# Altium schematic symbol library Microver.SchLib: 988 symbols (part 11 of 17)
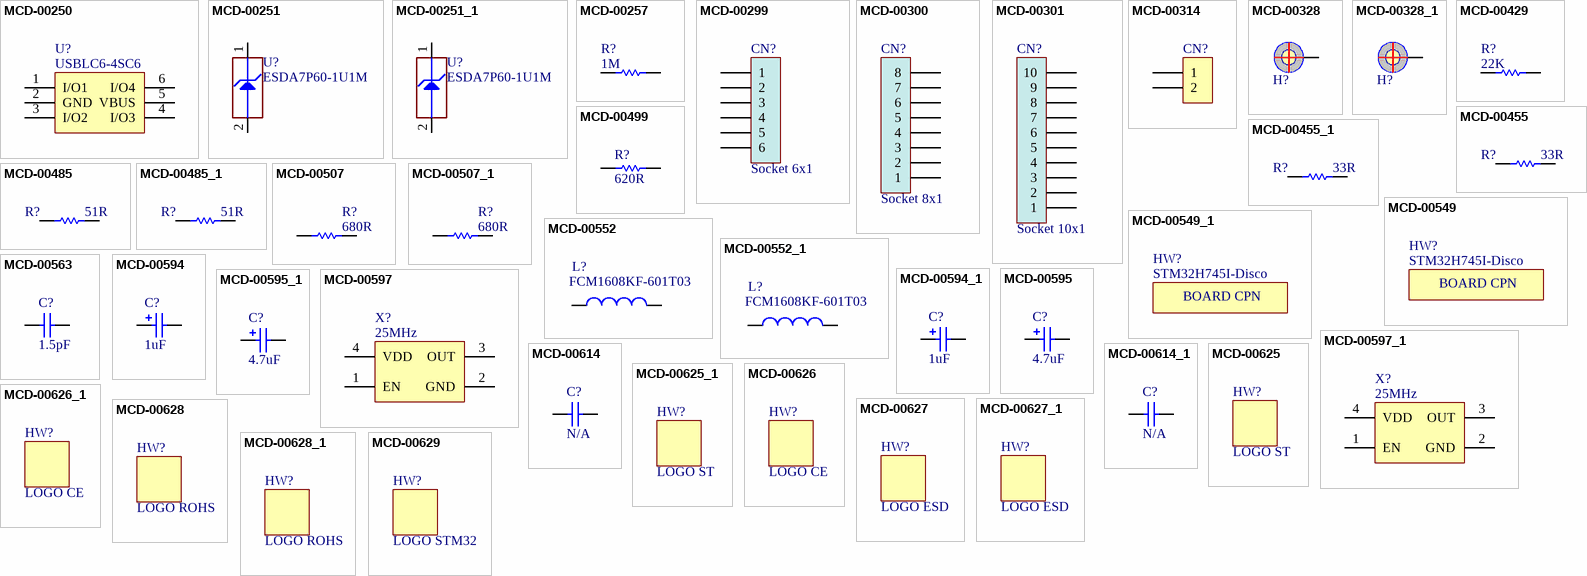
[diagram p39: symbols MCD-00250 to MCD-00629]

## MCD-00597_1
designator X?, comment value 25MHz  (hidden comment: Oscillator_4pins)
Oscillator 25.00Mhz, -+50PPM, 3.3V, Temp -55 to +125°C; Internal_Part_Number: MCD-00597; Part_Type: Crystal_Osc; Manufacturer_Part_Number: NZ2520SB 25MHz END4869B; Manufacturer: NDK; Alternate_Manufacturer_Part_Number: KC2520B25.0000C10E00; Alternate_Manufacturer: AVX CORP/KYOCERA CORP; Provided_By: STM; Initial_Board_Reference: MB1331; Status: Footprint available; ComponentLink1Description: NDK_OSCILLATOR_NZ2520SB.pdf; ComponentLink1URL: http://tunmcdsvn.tun.st.com/Component_Datasheet_Library/Trunk/Crystal_Osc/NDK_OSCILLATOR_NZ2520SB; Order_Code_Digikey: 478-4780-1-ND; ECCN_US: n/a; ECCN_EU: n/a
footprint OSC_NDK_NZ2520SB_4P
pins: 1 EN, 2 GND, 3 OUT, 4 VDD

## MCD-00614
designator C?, comment N/A
Capacitor, MLCC, 22uF, 16V, 1210, X7R, 20%, T=2,5mm, ESR 2mohm@410KHz; Internal_Part_Number: MCD-00614; Manufacturer_Part_Number: GCM32ER71C226ME19; Manufacturer: MURATA; Provided_By: Subcon; Initial_Board_Reference: MB1331; Value: 22uF; Status: Footprint available; Part_Type: Capacitor; Package: C1210; ComponentLink1Description: Murata_22uF_1210_GCM32ER71C226ME19.pdf; ComponentLink1URL: http://tunmcdsvn.tun.st.com/Component_Datasheet_Library/Trunk/Capacitors/Murata_Capacitor_GC_series
footprint C1210
pins: 1, 2

## MCD-00614_1
designator C?, comment N/A
Capacitor, MLCC, 22uF, 16V, 1210, X7R, 20%, T=2,5mm, ESR 2mohm@410KHz; Internal_Part_Number: MCD-00614; Manufacturer_Part_Number: GCM32ER71C226ME19; Manufacturer: MURATA; Provided_By: Subcon; Initial_Board_Reference: MB1331; Value: 22uF; Status: Footprint available; Part_Type: Capacitor; Package: C1210; ComponentLink1Description: Murata_22uF_1210_GCM32ER71C226ME19.pdf; ComponentLink1URL: http://tunmcdsvn.tun.st.com/Component_Datasheet_Library/Trunk/Capacitors/Murata_Capacitor_GC_series
footprint C1210
pins: 1, 2

## MCD-00625
designator HW?, comment value LOGO ST  (hidden comment: Logo)  (no BOM)
"STMicroelectronics" logo footprint for PCB; Internal_Part_Number: MCD-00625; Part_Type: Mechanical; Initial_Board_Reference: MB1331; Status: Released; Manufacturer_Part_Number: n/a; Manufacturer: n/a; ComponentLink1Description: n/a; ComponentLink1URL: http://na; ECCN_US: n/a; ECCN_EU: n/a; Provided_By: n/a
footprint LOGO_STM_BIG

## MCD-00625_1
designator HW?, comment value LOGO ST  (hidden comment: Logo)  (no BOM)
"STMicroelectronics" logo footprint for PCB; Internal_Part_Number: MCD-00625; Part_Type: Mechanical; Initial_Board_Reference: MB1331; Status: Released; Manufacturer_Part_Number: n/a; Manufacturer: n/a; ComponentLink1Description: n/a; ComponentLink1URL: http://na; ECCN_US: n/a; ECCN_EU: n/a; Provided_By: n/a
footprint LOGO_STM_BIG

## MCD-00626
designator HW?, comment value LOGO CE  (hidden comment: Logo)
"CE" logo footprint for PCB; Internal_Part_Number: MCD-00626; Part_Type: Mechanical; Initial_Board_Reference: mb1331; Status: Footprint available; ECCN_US: n/a; ECCN_EU: n/a; Provided_By: n/a
footprint LOGO_CE

## MCD-00626_1
designator HW?, comment value LOGO CE  (hidden comment: Logo)
"CE" logo footprint for PCB; Internal_Part_Number: MCD-00626; Part_Type: Mechanical; Initial_Board_Reference: mb1331; Status: Footprint available; ECCN_US: n/a; ECCN_EU: n/a; Provided_By: n/a
footprint LOGO_CE

## MCD-00627
designator HW?, comment value LOGO ESD  (hidden comment: Logo)  (no BOM)
"Hand" ESD logo footprint for PCB; Internal_Part_Number: MCD-00627; Part_Type: Mechanical; Initial_Board_Reference: MB1331; Status: Released; Manufacturer_Part_Number: n/a; Manufacturer: n/a; ComponentLink1Description: n/a; ComponentLink1URL: http://na; ECCN_US: n/a; ECCN_EU: n/a; Provided_By: n/a
footprint LOGO_MAIN_1

## MCD-00627_1
designator HW?, comment value LOGO ESD  (hidden comment: Logo)  (no BOM)
"Hand" ESD logo footprint for PCB; Internal_Part_Number: MCD-00627; Part_Type: Mechanical; Initial_Board_Reference: MB1331; Status: Released; Manufacturer_Part_Number: n/a; Manufacturer: n/a; ComponentLink1Description: n/a; ComponentLink1URL: http://na; ECCN_US: n/a; ECCN_EU: n/a; Provided_By: n/a
footprint LOGO_MAIN_1

## MCD-00628
designator HW?, comment value LOGO ROHS  (hidden comment: Logo)
"ROHS" logo footprint for PCB; Internal_Part_Number: MCD-00628; Part_Type: Mechanical; Initial_Board_Reference: mb1331; Status: Footprint available; ECCN_US: n/a; ECCN_EU: n/a; Provided_By: n/a
footprint LOGO_ROHS

## MCD-00628_1
designator HW?, comment value LOGO ROHS  (hidden comment: Logo)
"ROHS" logo footprint for PCB; Internal_Part_Number: MCD-00628; Part_Type: Mechanical; Initial_Board_Reference: mb1331; Status: Footprint available; ECCN_US: n/a; ECCN_EU: n/a; Provided_By: n/a
footprint LOGO_ROHS

## MCD-00629
designator HW?, comment value LOGO STM32  (hidden comment: Logo)  (no BOM)
STM32 logo footprint for PCB; Internal_Part_Number: MCD-00629; Part_Type: Mechanical; Initial_Board_Reference: MB1331; Path: ws/MCD_ApplicationBoards/Lists/MCDPARTSdatabase; Item Type: Item; Status: Released; ComponentLink1Description: Datasheet; Provided_By: n/a
footprint LOGO_STM32

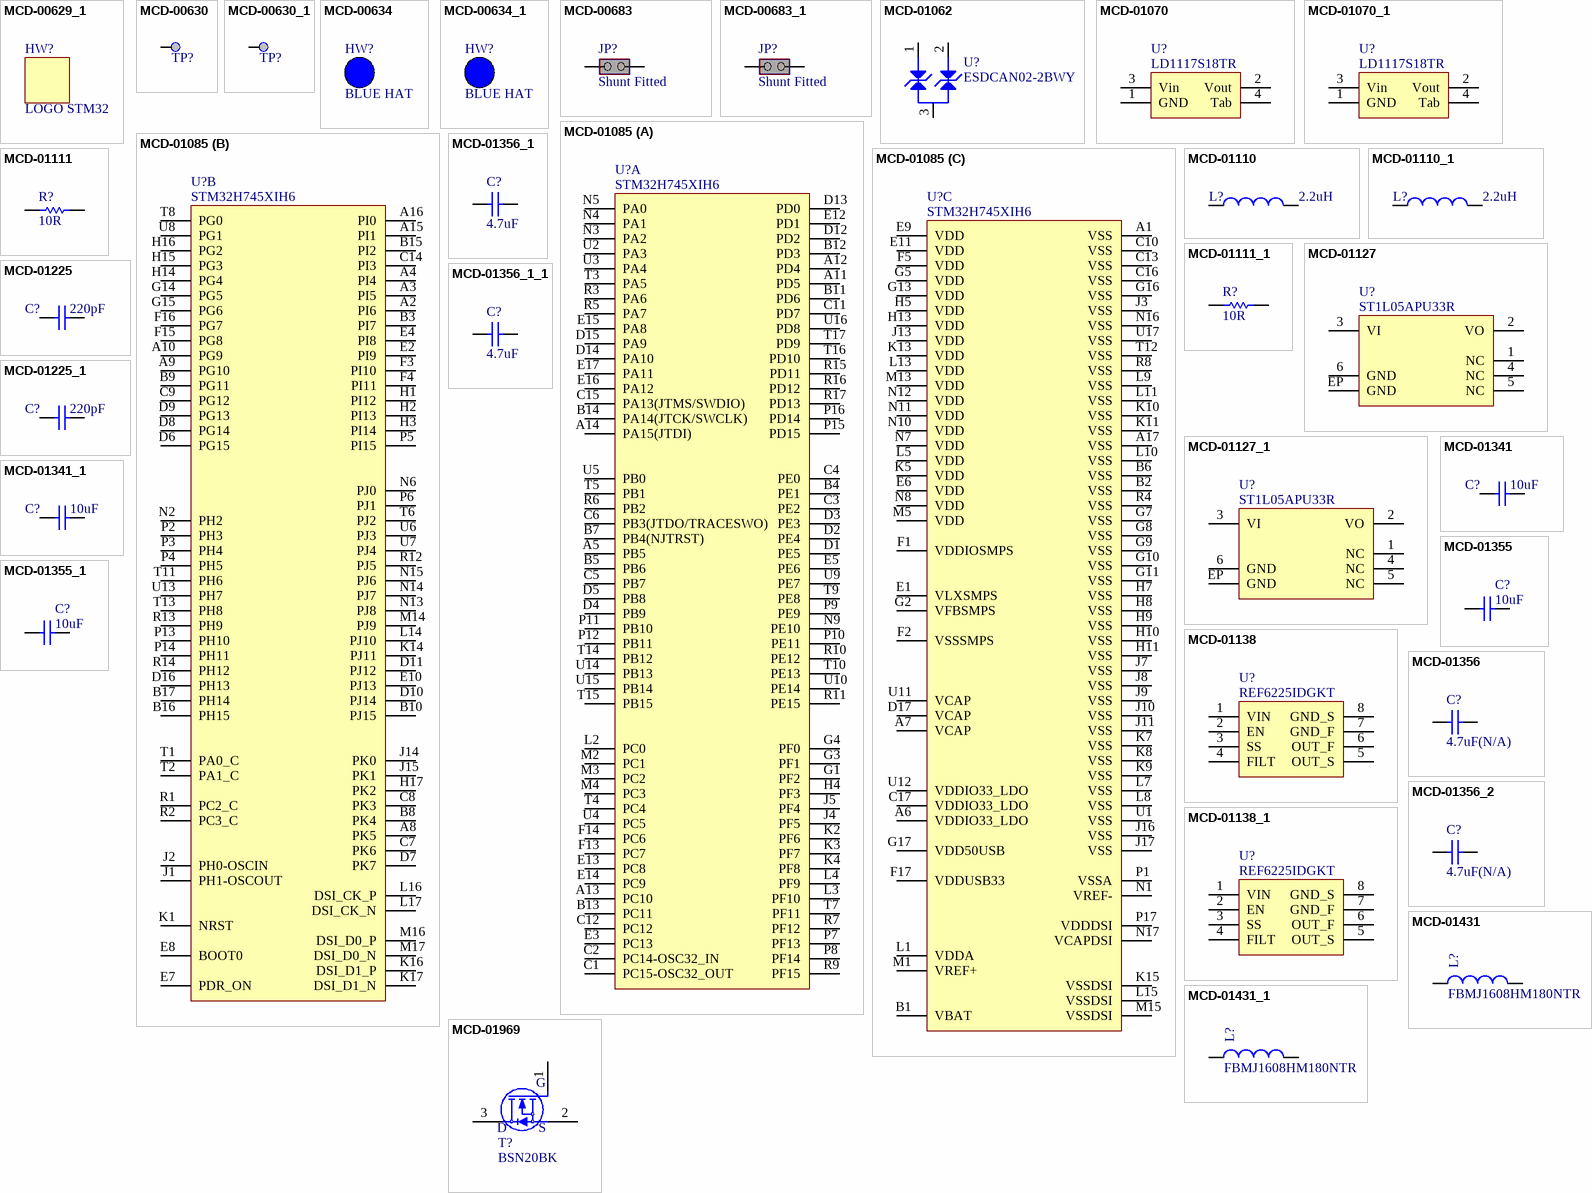
[diagram p19: symbols MCD-00629_1 to MCD-01969]

## MCD-00629_1
designator HW?, comment value LOGO STM32  (hidden comment: Logo)  (no BOM)
STM32 logo footprint for PCB; Internal_Part_Number: MCD-00629; Part_Type: Mechanical; Initial_Board_Reference: MB1331; Path: ws/MCD_ApplicationBoards/Lists/MCDPARTSdatabase; Item Type: Item; Status: Released; ComponentLink1Description: Datasheet; Provided_By: n/a
footprint LOGO_STM32

## MCD-00630
designator TP?, comment Test Point  (value not drawn)  (no BOM)
Test Point 0.3mm; Internal_Part_Number: MCD-00630; Part_Type: Mechanical; Initial_Board_Reference: MB1264; Status: Released; ECCN_US: n/a; ECCN_EU: n/a; Provided_By: n/a
footprint TP_SMD_0-3MM
pins: 1

## MCD-00630_1
designator TP?, comment Test Point  (value not drawn)  (no BOM)
Test Point 0.3mm; Internal_Part_Number: MCD-00630; Part_Type: Mechanical; Initial_Board_Reference: MB1264; Status: Released; ECCN_US: n/a; ECCN_EU: n/a; Provided_By: n/a
footprint TP_SMD_0-3MM
pins: 1

## MCD-00634
designator HW?, comment value BLUE HAT  (hidden comment: BUTTON_HAT_BLUE)  (mechanical)
Blue Hat for switch TD0341X-G01-BLU; Internal_Part_Number: MCD-00634; Part_Type: Mechanical; Manufacturer_Part_Number: 988.16.09.3.00002_SH-517; Manufacturer: JIUBABA; Provided_By: Subcon; Initial_Board_Reference: mb1319; Status: Released; ECCN_US: n/a; ECCN_EU: n/a; ComponentLink1Description: Juibaba_HAT_SH-517.pdf; ComponentLink1URL: http://tunmcdsvn.tun.st.com/Component_Datasheet_Library/Trunk/Mechanical/Juibaba_HAT_SH-517.pdf

## MCD-00634_1
designator HW?, comment value BLUE HAT  (hidden comment: BUTTON_HAT_BLUE)  (mechanical)
Blue Hat for switch TD0341X-G01-BLU; Internal_Part_Number: MCD-00634; Part_Type: Mechanical; Manufacturer_Part_Number: 988.16.09.3.00002_SH-517; Manufacturer: JIUBABA; Provided_By: Subcon; Initial_Board_Reference: mb1319; Status: Released; ECCN_US: n/a; ECCN_EU: n/a; ComponentLink1Description: Juibaba_HAT_SH-517.pdf; ComponentLink1URL: http://tunmcdsvn.tun.st.com/Component_Datasheet_Library/Trunk/Mechanical/Juibaba_HAT_SH-517.pdf

## MCD-00683
designator JP?, comment Shunt Fitted
Header, 2x1, 2,54mm, VR, TH, Height 5.84mm/2.54mm - Shunt Fitted by default; Internal_Part_Number: MCD-00683; Part_Type: Connector; Manufacturer_Part_Number: TSW-102-07-x-S; Manufacturer: SAMTEC; Provided_By: Subcon; Initial_Board_Reference: MB1331; Value: Shunt Fitted; Status: Released; ComponentLink1Description: Samtec_connector_TSW-HTSW-series.pdf; ComponentLink1URL: http://tunmcdsvn.tun.st.com/Component_Datasheet_Library/Trunk/Connectors/Samtec_TSW-HTSW-series; ECCN_US: n/a; ECCN_EU: n/a
footprint CON_SAMTEC_TSW-102-07-G-S
pins: 1 COMMON, 2 NO

## MCD-00683_1
designator JP?, comment Shunt Fitted
Header, 2x1, 2,54mm, VR, TH, Height 5.84mm/2.54mm - Shunt Fitted by default; Internal_Part_Number: MCD-00683; Part_Type: Connector; Manufacturer_Part_Number: TSW-102-07-x-S; Manufacturer: SAMTEC; Provided_By: Subcon; Initial_Board_Reference: MB1331; Value: Shunt Fitted; Status: Released; ComponentLink1Description: Samtec_connector_TSW-HTSW-series.pdf; ComponentLink1URL: http://tunmcdsvn.tun.st.com/Component_Datasheet_Library/Trunk/Connectors/Samtec_TSW-HTSW-series; ECCN_US: n/a; ECCN_EU: n/a
footprint CON_SAMTEC_TSW-102-07-G-S
pins: 1 COMMON, 2 NO

## MCD-01062
designator U?, comment value ESDCAN02-2BWY  (hidden comment: ESD-TRANSIL-DUAL-BIDIR)
Automotive dual-line Transil, transient voltage suppressor / (TVS) for CAN bus. Compliant with interfaces in automotive: CAN-FD, LIN, FlexRay, MOST, SENT, USB; Internal_Part_Number: MCD-01062; Part_Type: Diode; Manufacturer: STMICROELECTRONICS; Provided_By: Subcon; Initial_Board_Reference: MB1331; Status: Footprint available; Manufacturer_Part_Number: ESDCAN02-2BWY; Package: SOT323-3L; ComponentLink1Description: STM_ESD_ESDCAN02-2BWY; ComponentLink1URL: http://tunmcdsvn.tun.st.com/Component_Datasheet_Library/Trunk/Diodes/STM_ESD_ESDCAN02-2BWY; ECCN_US: n/a; ECCN_EU: n/a
footprint DIO_SOT323
pins: 1, 2, 3

## MCD-01070
designator U?  value LD1117S18TR
Adjustable and fixed low drop positive voltage regulator; Internal_Part_Number: MCD-01070; Part_Type: IC; Manufacturer: STMICROELECTRONICS; ECCN_US: EAR99; ECCN_EU: NEC; Provided_By: Subcon; Initial_Board_Reference: MB1381; Status: Footprint available; Manufacturer_Part_Number: LD1117S18TR; Package: SOT-223; ComponentLink1Description: STM_LDO_LD1117S18TR.pdf; ComponentLink1URL: http://tunmcdsvn.tun.st.com/Component_Datasheet_Library/Trunk/IC/STM_LDO_LD1117S18TR/STM_LDO_LD1117S18TR.pdf
footprint REG_SOT223-TAB
pins: 1 GND (power), 2 Vout (power), 3 Vin (power), 4 Tab (power)

## MCD-01070_1
designator U?  value LD1117S18TR
Adjustable and fixed low drop positive voltage regulator; Internal_Part_Number: MCD-01070; Part_Type: IC; Manufacturer: STMICROELECTRONICS; ECCN_US: EAR99; ECCN_EU: NEC; Provided_By: Subcon; Initial_Board_Reference: MB1381; Status: Footprint available; Manufacturer_Part_Number: LD1117S18TR; Package: SOT-223; ComponentLink1Description: STM_LDO_LD1117S18TR.pdf; ComponentLink1URL: http://tunmcdsvn.tun.st.com/Component_Datasheet_Library/Trunk/IC/STM_LDO_LD1117S18TR/STM_LDO_LD1117S18TR.pdf
footprint REG_SOT223-TAB
pins: 1 GND (power), 2 Vout (power), 3 Vin (power), 4 Tab (power)

## MCD-01085
designator U?  value STM32H745XIH6
32bit MCU TFBGA240+25; Internal_Part_Number: MCD-01085; Part_Type: IC; Manufacturer: STMICROELECTRONICS; Provided_By: STM; Initial_Board_Reference: MB1381; Status: Footprint available; Manufacturer_Part_Number: STM32H745XIH6; Package: TFBGA265; ComponentLink1Description: Datasheet; ComponentLink1URL: http://tunmcdsvn.tun.st.com/Component_Datasheet_Library/Trunk/IC/STM_MCU_STM32H745H6U_TFBGA265/STM_MCU_STM32H745H6U_TFBGA265.pdf
footprint ICC_TFBGA240+25_14X14_STM32H745H6U_P080
part A pins: A5 PB5, A11 PD5, A12 PD4, A13 PC10, A14 PA15(JTDI), B4 PE1, B5 PB6, B7 PB4(NJTRST), B11 PD6, B12 PD3, B13 PC11, B14 PA14(JTCK/SWCLK), C1 PC15-OSC32_OUT, C2 PC14-OSC32_IN, C3 PE2, C4 PE0, C5 PB7, C6 PB3(JTDO/TRACESWO), C11 PD7, C12 PC12, C15 PA13(JTMS/SWDIO), D1 PE5, D2 PE4, D3 PE3, D4 PB9, D5 PB8, D12 PD2, D13 PD0, D14 PA10, D15 PA9, E3 PC13, E5 PE6, E12 PD1, E13 PC8, E14 PC9, E15 PA8, E16 PA12, E17 PA11, F13 PC7, F14 PC6, G1 PF2, G3 PF1, G4 PF0, H4 PF3, J4 PF5, J5 PF4, K2 PF6, K3 PF7, K4 PF8, L2 PC0, L3 PF10, L4 PF9, M2 PC1, M3 PC2, M4 PC3, N3 PA2, N4 PA1, N5 PA0, N9 PE10, P7 PF13, P8 PF14, P9 PE9, P10 PE11, P11 PB10, P12 PB11, P15 PD15, P16 PD14, R3 PA6, R5 PA7, R6 PB2, R7 PF12, R9 PF15, R10 PE12, R11 PE15, R15 PD11, R16 PD12, R17 PD13, T3 PA5, T4 PC4, T5 PB1, T7 PF11, T9 PE8, T10 PE13, T14 PB12, T15 PB15, T16 PD10, T17 PD9, U2 PA3, U3 PA4, U4 PC5, U5 PB0, U9 PE7, U10 PE14, U14 PB13, U15 PB14, U16 PD8
part B pins: A2 PI6, A3 PI5, A4 PI4, A8 PK5, A9 PG10, A10 PG9, A15 PI1, A16 PI0, B3 PI7, B8 PK4, B9 PG11, B10 PJ15, B15 PI2, B16 PH15, B17 PH14, C7 PK6, C8 PK3, C9 PG12, C14 PI3, D6 PG15, D7 PK7, D8 PG14, D9 PG13, D10 PJ14, D11 PJ12, D16 PH13, E2 PI9, E4 PI8, E7 PDR_ON, E8 BOOT0, E10 PJ13, F3 PI10, F4 PI11, F15 PG8, F16 PG7, G14 PG5, G15 PG6, H1 PI12, H2 PI13, H3 PI14, H14 PG4, H15 PG3, H16 PG2, H17 PK2, J1 PH1-OSCOUT, J2 PH0-OSCIN, J14 PK0, J15 PK1, K1 NRST, K14 PJ11, K16 DSI_D1_P, K17 DSI_D1_N, L14 PJ10, L16 DSI_CK_P, L17 DSI_CK_N, M14 PJ9, M16 DSI_D0_P, M17 DSI_D0_N, N2 PH2, N6 PJ0, N13 PJ8, N14 PJ7, N15 PJ6, P2 PH3, P3 PH4, P4 PH5, P5 PI15, P6 PJ1, P13 PH10, P14 PH11, R1 PC2_C, R2 PC3_C, R12 PJ5, R13 PH9, R14 PH12, T1 PA0_C, T2 PA1_C, T6 PJ2, T8 PG0, T11 PH6, T13 PH8, U6 PJ3, U7 PJ4, U8 PG1, U13 PH7
part C pins: A1 VSS, A6 VDDIO33_LDO, A7 VCAP, A17 VSS, B1 VBAT, B2 VSS, B6 VSS, C10 VSS, C13 VSS, C16 VSS, C17 VDDIO33_LDO, D17 VCAP, E1 VLXSMPS, E6 VDD, E9 VDD, E11 VDD, F1 VDDIOSMPS, F2 VSSSMPS, F5 VDD, F17 VDDUSB33, G2 VFBSMPS, G5 VDD, G7 VSS, G8 VSS, G9 VSS, G10 VSS, G11 VSS, G13 VDD, G16 VSS, G17 VDD50USB, H5 VDD, H7 VSS, H8 VSS, H9 VSS, H10 VSS, H11 VSS, H13 VDD, J3 VSS, J7 VSS, J8 VSS, J9 VSS, J10 VSS, J11 VSS, J13 VDD, J16 VSS, J17 VSS, K5 VDD, K7 VSS, K8 VSS, K9 VSS, K10 VSS, K11 VSS, K13 VDD, K15 VSSDSI, L1 VDDA, L5 VDD, L7 VSS, L8 VSS, L9 VSS, L10 VSS, L11 VSS, L13 VDD, L15 VSSDSI, M1 VREF+, M5 VDD, M13 VDD, M15 VSSDSI, N1 VREF-, N7 VDD, N8 VDD, N10 VDD, N11 VDD, N12 VDD, N16 VSS, N17 VCAPDSI, P1 VSSA, P17 VDDDSI, R4 VSS, R8 VSS, T12 VSS, U1 VSS, U11 VCAP, U12 VDDIO33_LDO, U17 VSS

## MCD-01110
designator L?  value 2.2uH
Inductor 2.2uH, 2x1.6x0.9mm; Internal_Part_Number: MCD-01110; Manufacturer_Part_Number: LQM2MPN2R2NG0; Manufacturer: MURATA; Provided_By: Subcon; Initial_Board_Reference: MB1381; Status: Footprint available; Part_Type: Inductor; ComponentLink1Description: Murata_inductor_LQM2MPN.pdf; ComponentLink1URL: http://tunmcdsvn.tun.st.com/Component_Datasheet_Library/Trunk/Inductors/Murata_inductor_LQM2MPN/Murata_inductor_LQM2MPN.pdf; ECCN_US: n/a; ECCN_EU: n/a
footprint IND_2016_MURATA_LQM2MPN2R2NG0
pins: 1, 2

## MCD-01110_1
designator L?  value 2.2uH
Inductor 2.2uH, 2x1.6x0.9mm; Internal_Part_Number: MCD-01110; Manufacturer_Part_Number: LQM2MPN2R2NG0; Manufacturer: MURATA; Provided_By: Subcon; Initial_Board_Reference: MB1381; Status: Footprint available; Part_Type: Inductor; ComponentLink1Description: Murata_inductor_LQM2MPN.pdf; ComponentLink1URL: http://tunmcdsvn.tun.st.com/Component_Datasheet_Library/Trunk/Inductors/Murata_inductor_LQM2MPN/Murata_inductor_LQM2MPN.pdf; ECCN_US: n/a; ECCN_EU: n/a
footprint IND_2016_MURATA_LQM2MPN2R2NG0
pins: 1, 2

## MCD-01111
designator R?, comment value 10R  (hidden comment: Resistor)
Resistor,10R,0805,1%,Stackpole,1/4W; Internal_Part_Number: MCD-01111; Manufacturer_Part_Number: RNCP0805FTD10R0; Provided_By: Subcon; Initial_Board_Reference: MB1381; Status: Footprint available; Part_Type: Resistor; Manufacturer: STACKPOLE; Package: R0805; ComponentLink1Description: Stackpole_Resisteor_RNCP Series.pdf; ComponentLink1URL: http://tunmcdsvn.tun.st.com/Component_Datasheet_Library/Trunk/Resistors/Stackpole_Resisteor_RNCP%20Series/Stackpole_Resisteor_RNCP%20Series.pdf; ECCN_US: n/a; ECCN_EU: n/a
footprint R0805
pins: 1, 2

## MCD-01111_1
designator R?, comment value 10R  (hidden comment: Resistor)
Resistor,10R,0805,1%,Stackpole,1/4W; Internal_Part_Number: MCD-01111; Manufacturer_Part_Number: RNCP0805FTD10R0; Provided_By: Subcon; Initial_Board_Reference: MB1381; Status: Footprint available; Part_Type: Resistor; Manufacturer: STACKPOLE; Package: R0805; ComponentLink1Description: Stackpole_Resisteor_RNCP Series.pdf; ComponentLink1URL: http://tunmcdsvn.tun.st.com/Component_Datasheet_Library/Trunk/Resistors/Stackpole_Resisteor_RNCP%20Series/Stackpole_Resisteor_RNCP%20Series.pdf; ECCN_US: n/a; ECCN_EU: n/a
footprint R0805
pins: 1, 2

## MCD-01127
designator U?, comment ST1L05APU33R
IC REG LDO 3.3V 1.3A 6DFN; Internal_Part_Number: MCD-01127; Manufacturer: STMICROELECTRONICS; ECCN_US: EAR99; ECCN_EU: NEC; Provided_By: Subcon; Initial_Board_Reference: MB1381; Value: ST1L05APU33R; Status: Footprint available; Part_Type: IC; Manufacturer_Part_Number: ST1L05APU33R; Package: DFN6; ComponentLink1Description: STM_LDO_ST1L05CPU33R.pdf; ComponentLink1URL: http://tunmcdsvn.tun.st.com/Component_Datasheet_Library/Trunk/IC/STM_LDO_ST1L05CPU33R/STM_LDO_ST1L05CPU33R.pdf
footprint ICC_DFN6-EPAD_3X3_P095
pins: 1 NC, 2 VO, 3 VI, 4 NC, 5 NC, 6 GND, EP GND

## MCD-01127_1
designator U?, comment ST1L05APU33R
IC REG LDO 3.3V 1.3A 6DFN; Internal_Part_Number: MCD-01127; Manufacturer: STMICROELECTRONICS; ECCN_US: EAR99; ECCN_EU: NEC; Provided_By: Subcon; Initial_Board_Reference: MB1381; Value: ST1L05APU33R; Status: Footprint available; Part_Type: IC; Manufacturer_Part_Number: ST1L05APU33R; Package: DFN6; ComponentLink1Description: STM_LDO_ST1L05CPU33R.pdf; ComponentLink1URL: http://tunmcdsvn.tun.st.com/Component_Datasheet_Library/Trunk/IC/STM_LDO_ST1L05CPU33R/STM_LDO_ST1L05CPU33R.pdf
footprint ICC_DFN6-EPAD_3X3_P095
pins: 1 NC, 2 VO, 3 VI, 4 NC, 5 NC, 6 GND, EP GND

## MCD-01138
designator U?  value REF6225IDGKT
IC VREF SERIES 2.5V 8VSSOP; Internal_Part_Number: MCD-01138; Manufacturer: TI; Provided_By: Subcon; Initial_Board_Reference: MB1381; Status: Footprint available; Part_Type: IC; Manufacturer_Part_Number: REF6225IDGKT; Package: VSSOP8; ComponentLink1Description: TI_REF_REF6225IDGKT; ComponentLink1URL: http://tunmcdsvn.tun.st.com/Component_Datasheet_Library/Trunk/IC/TI_REF_REF6225IDGKT/TI_REF_REF6225IDGKT.pdf; ECCN_US: N/A; ECCN_EU: N/A
footprint ICC_VSSOP8_DGK_S-PDSO-G8_3X3_P065
pins: 1 VIN, 2 EN, 3 SS, 4 FILT, 5 OUT_S, 6 OUT_F, 7 GND_F, 8 GND_S

## MCD-01138_1
designator U?  value REF6225IDGKT
IC VREF SERIES 2.5V 8VSSOP; Internal_Part_Number: MCD-01138; Manufacturer: TI; Provided_By: Subcon; Initial_Board_Reference: MB1381; Status: Footprint available; Part_Type: IC; Manufacturer_Part_Number: REF6225IDGKT; Package: VSSOP8; ComponentLink1Description: TI_REF_REF6225IDGKT; ComponentLink1URL: http://tunmcdsvn.tun.st.com/Component_Datasheet_Library/Trunk/IC/TI_REF_REF6225IDGKT/TI_REF_REF6225IDGKT.pdf; ECCN_US: N/A; ECCN_EU: N/A
footprint ICC_VSSOP8_DGK_S-PDSO-G8_3X3_P065
pins: 1 VIN, 2 EN, 3 SS, 4 FILT, 5 OUT_S, 6 OUT_F, 7 GND_F, 8 GND_S

## MCD-01225
designator C?, comment value 220pF  (hidden comment: Capacitor)
Capacitor, MLCC, 220pF, 50V, NPO, 5%, 0402, T=0,5mm; Internal_Part_Number: MCD-01225; Manufacturer_Part_Number: CC0402JRNPO9BN221; Manufacturer: YAGEO; Provided_By: Subcon; Initial_Board_Reference: MB1331; Status: Footprint available; Part_Type: Capacitor; Package: C0402; ComponentLink1Description: Datasheet; ComponentLink1URL: http://tunmcdsvn.tun.st.com/Component_Datasheet_Library/Trunk/Capacitors/Yageo_Capacitor_NP0_16V-to-50V
footprint C0402
pins: 1, 2

## MCD-01225_1
designator C?, comment value 220pF  (hidden comment: Capacitor)
Capacitor, MLCC, 220pF, 50V, NPO, 5%, 0402, T=0,5mm; Internal_Part_Number: MCD-01225; Manufacturer_Part_Number: CC0402JRNPO9BN221; Manufacturer: YAGEO; Provided_By: Subcon; Initial_Board_Reference: MB1331; Status: Footprint available; Part_Type: Capacitor; Package: C0402; ComponentLink1Description: Datasheet; ComponentLink1URL: http://tunmcdsvn.tun.st.com/Component_Datasheet_Library/Trunk/Capacitors/Yageo_Capacitor_NP0_16V-to-50V
footprint C0402
pins: 1, 2

## MCD-01341
designator C?, comment value 10uF  (hidden comment: Capacitor)
Capacitor, MLCC, 10uF, 6V3, X5R, 20%, 0603, T=0,8mm; Internal_Part_Number: MCD-01341; Manufacturer_Part_Number: GRM188R60J106ME47D; Manufacturer: MURATA; Provided_By: Subcon; Initial_Board_Reference: MB1331; ComponentLink1Description: Datasheet; Status: Checked; Part_Type: Capacitor; Package: C0603; ComponentLink1URL: http://tunmcdsvn.tun.st.com/Component_Datasheet_Library/Trunk/Capacitors/Murata_Capacitor_GR_series
footprint C0603
pins: 1, 2

## MCD-01341_1
designator C?, comment value 10uF  (hidden comment: Capacitor)
Capacitor, MLCC, 10uF, 6V3, X5R, 20%, 0603, T=0,8mm; Internal_Part_Number: MCD-01341; Manufacturer_Part_Number: GRM188R60J106ME47D; Manufacturer: MURATA; Provided_By: Subcon; Initial_Board_Reference: MB1331; ComponentLink1Description: Datasheet; Status: Checked; Part_Type: Capacitor; Package: C0603; ComponentLink1URL: http://tunmcdsvn.tun.st.com/Component_Datasheet_Library/Trunk/Capacitors/Murata_Capacitor_GR_series
footprint C0603
pins: 1, 2

## MCD-01355
designator C?, comment value 10uF  (hidden comment: Capacitor)
Capacitor, MLCC, 10uF, 4V, X5R, 20%, 0402, T=0,5mm; Internal_Part_Number: MCD-01355; Manufacturer_Part_Number: GRM155R60G106ME44; Manufacturer: MURATA; Provided_By: Subcon; Initial_Board_Reference: MB1372; ComponentLink1Description: Datasheet; Status: Checked; Part_Type: Capacitor; Package: C0402; ComponentLink1URL: http://tunmcdsvn.tun.st.com/Component_Datasheet_Library/Trunk/Capacitors/Murata_Capacitor_GR_series
footprint C0402
pins: 1, 2

## MCD-01355_1
designator C?, comment value 10uF  (hidden comment: Capacitor)
Capacitor, MLCC, 10uF, 4V, X5R, 20%, 0402, T=0,5mm; Internal_Part_Number: MCD-01355; Manufacturer_Part_Number: GRM155R60G106ME44; Manufacturer: MURATA; Provided_By: Subcon; Initial_Board_Reference: MB1372; ComponentLink1Description: Datasheet; Status: Checked; Part_Type: Capacitor; Package: C0402; ComponentLink1URL: http://tunmcdsvn.tun.st.com/Component_Datasheet_Library/Trunk/Capacitors/Murata_Capacitor_GR_series
footprint C0402
pins: 1, 2

## MCD-01356
designator C?, comment value 4.7uF(N/A)  (hidden comment: Capacitor)
Capacitor, MLCC, 4.7uF, 6V3, X5R, 20%, 0402, T=0,5mm; Internal_Part_Number: MCD-01356; Manufacturer_Part_Number: GRM155R60J475ME47; Manufacturer: MURATA; Provided_By: Subcon; Initial_Board_Reference: MB1372; ComponentLink1Description: Datasheet; Status: Checked; Part_Type: Capacitor; Package: C0402; ComponentLink1URL: http://tunmcdsvn.tun.st.com/Component_Datasheet_Library/Trunk/Capacitors/Murata_Capacitor_GR_series
footprint C0402
pins: 1, 2

## MCD-01356_1
designator C?, comment value 4.7uF  (hidden comment: Capacitor)
Capacitor, MLCC, 4.7uF, 6V3, X5R, 20%, 0402, T=0,5mm; Internal_Part_Number: MCD-01356; Manufacturer_Part_Number: GRM155R60J475ME47; Manufacturer: MURATA; Provided_By: Subcon; Initial_Board_Reference: MB1372; ComponentLink1Description: Datasheet; Status: Checked; Part_Type: Capacitor; Package: C0402; ComponentLink1URL: http://tunmcdsvn.tun.st.com/Component_Datasheet_Library/Trunk/Capacitors/Murata_Capacitor_GR_series
footprint C0402
pins: 1, 2

## MCD-01356_1_1
designator C?, comment value 4.7uF  (hidden comment: Capacitor)
Capacitor, MLCC, 4.7uF, 6V3, X5R, 20%, 0402, T=0,5mm; Internal_Part_Number: MCD-01356; Manufacturer_Part_Number: GRM155R60J475ME47; Manufacturer: MURATA; Provided_By: Subcon; Initial_Board_Reference: MB1372; ComponentLink1Description: Datasheet; Status: Checked; Part_Type: Capacitor; Package: C0402; ComponentLink1URL: http://tunmcdsvn.tun.st.com/Component_Datasheet_Library/Trunk/Capacitors/Murata_Capacitor_GR_series
footprint C0402
pins: 1, 2

## MCD-01356_2
designator C?, comment value 4.7uF(N/A)  (hidden comment: Capacitor)
Capacitor, MLCC, 4.7uF, 6V3, X5R, 20%, 0402, T=0,5mm; Internal_Part_Number: MCD-01356; Manufacturer_Part_Number: GRM155R60J475ME47; Manufacturer: MURATA; Provided_By: Subcon; Initial_Board_Reference: MB1372; ComponentLink1Description: Datasheet; Status: Checked; Part_Type: Capacitor; Package: C0402; ComponentLink1URL: http://tunmcdsvn.tun.st.com/Component_Datasheet_Library/Trunk/Capacitors/Murata_Capacitor_GR_series
footprint C0402
pins: 1, 2

## MCD-01431
designator L?, comment value FBMJ1608HM180NTR  (hidden comment: Inductor)
Ferrite Bead 18 ohm@100M Hz 0603; Internal_Part_Number: MCD-01431; Manufacturer: TAIYO YUDEN; Provided_By: SUBCO; Initial_Board_Reference: MB1381; Remark: new part, need to create new ST part number; Status: Footprint available; Part_Type: Inductor; Manufacturer_Part_Number: FBMJ1608HM180NTR; Package: L0603; ComponentLink1Description: Datasheet; ComponentLink1URL: http://tunmcdsvn.tun.st.com/Component_Datasheet_Library/Trunk/Inductors/TaiyoYuden_Bead_FBA,%20FBR%20Series/TaiyoYuden_Bead_FBA,%20FBR%20Series.pdf
footprint L0603
pins: 1, 2

## MCD-01431_1
designator L?, comment value FBMJ1608HM180NTR  (hidden comment: Inductor)
Ferrite Bead 18 ohm@100M Hz 0603; Internal_Part_Number: MCD-01431; Manufacturer: TAIYO YUDEN; Provided_By: SUBCO; Initial_Board_Reference: MB1381; Remark: new part, need to create new ST part number; Status: Footprint available; Part_Type: Inductor; Manufacturer_Part_Number: FBMJ1608HM180NTR; Package: L0603; ComponentLink1Description: Datasheet; ComponentLink1URL: http://tunmcdsvn.tun.st.com/Component_Datasheet_Library/Trunk/Inductors/TaiyoYuden_Bead_FBA,%20FBR%20Series/TaiyoYuden_Bead_FBA,%20FBR%20Series.pdf
footprint L0603
pins: 1, 2

## MCD-01969
designator T?, comment value BSN20BK  (hidden comment: BSN20)
Transistor, N-channel enhancement mode field-effect transistor; Internal_Part_Number: MCD-01969; Part_Preference: Recommended; Manufacturer: NEXPERIA; Order_Code_RS: 136-4845; Component_Country_Of_Origin: China; ShowFields: YES; ID: 4069; Status: Released; Part_Type: Transistor; Manufacturer_Part_Number: BSN20BK; Package: BSN20BK; ComponentLink1URL: http://tunmcdsvn.tun.st.com/Component_Datasheet_Library/Trunk/IC/NXP_Transistor_BSN20BK_SOT23; Order_Code_Digikey: 1727-2341-1-ND; Order_Code_Farnell: 2575103
footprint MOS_SOT23
pins: 1 G, 2 S, 3 D

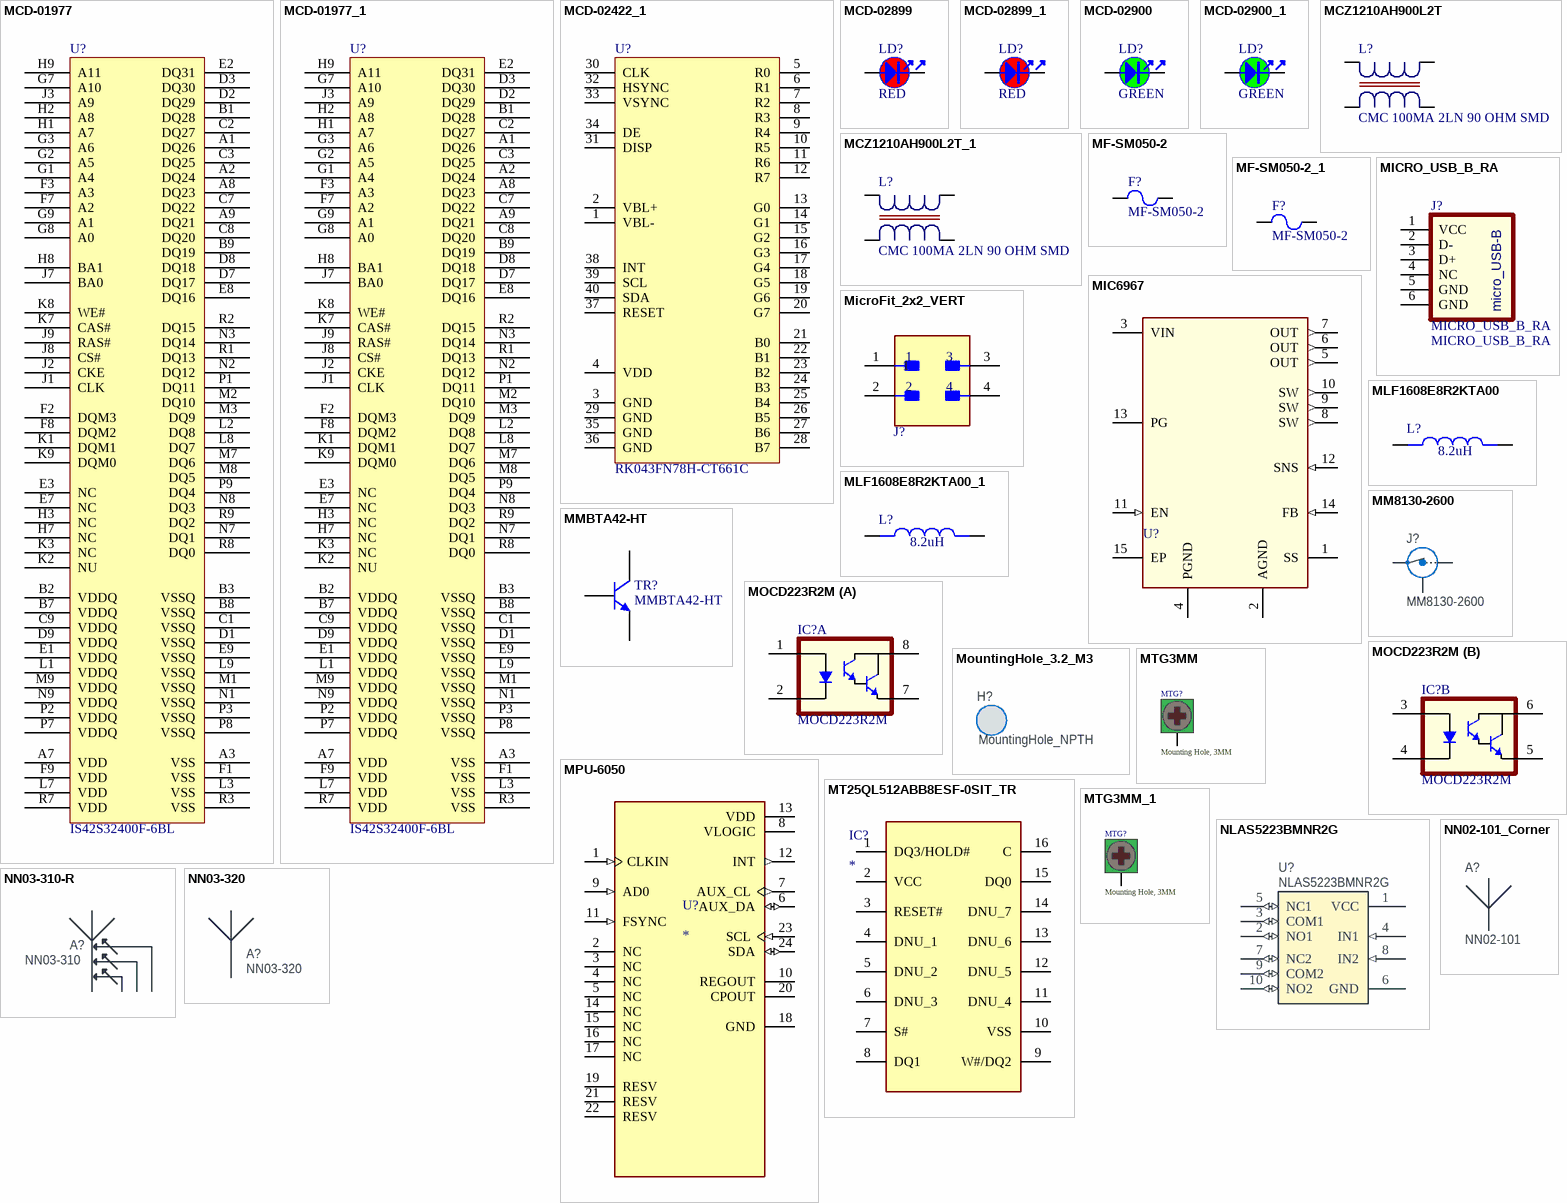
[diagram p20: symbols MCD-01977 to NN03-320]

## MCD-01977
designator U?, comment IS42S32400F-6BL
SDRAM 128MBit 166MHZ 90BGA; Internal_Part_Number: MCD-01977; Part_Type: IC; Part_Preference: Recommended; Manufacturer: ISSI; Component_Country_Of_Origin: China, Taiwan; ShowFields: YES; ID: 4077; Value: IS42S32400F-6BL; Status: Released; Manufacturer_Part_Number: IS42S32400F-6BL; ComponentLink1URL: http://tunmcdsvn.tun.st.com/Component_Datasheet_Library/Trunk/IC/ISSI_IS42S32400F-6BL; Order_Code_Digikey: IS42S32400F-6BL-ND; Order_Code_Farnell: N/A; Order_Code_RS: N/A
footprint ICC_VFBGA90_8X13_P080
pins: A1 DQ26, A2 DQ24, A3 VSS, A7 VDD, A8 DQ23, A9 DQ21, B1 DQ28, B2 VDDQ, B3 VSSQ, B7 VDDQ, B8 VSSQ, B9 DQ19, C1 VSSQ, C2 DQ27, C3 DQ25, C7 DQ22, C8 DQ20, C9 VDDQ, D1 VSSQ, D2 DQ29, D3 DQ30, D7 DQ17, D8 DQ18, D9 VDDQ, E1 VDDQ, E2 DQ31, E3 NC, E7 NC, E8 DQ16, E9 VSSQ, F1 VSS, F2 DQM3, F3 A3, F7 A2, F8 DQM2, F9 VDD, G1 A4, G2 A5, G3 A6, G7 A10, G8 A0, G9 A1, H1 A7, H2 A8, H3 NC, H7 NC, H8 BA1, H9 A11, J1 CLK, J2 CKE, J3 A9, J7 BA0, J8 CS#, J9 RAS#, K1 DQM1, K2 NU, K3 NC, K7 CAS#, K8 WE#, K9 DQM0, L1 VDDQ, L2 DQ8, L3 VSS, L7 VDD, L8 DQ7, L9 VSSQ, M1 VSSQ, M2 DQ10, M3 DQ9, M7 DQ6, M8 DQ5, M9 VDDQ, N1 VSSQ, N2 DQ12, N3 DQ14, N7 DQ1, N8 DQ3, N9 VDDQ, P1 DQ11, P2 VDDQ, P3 VSSQ, P7 VDDQ, P8 VSSQ, P9 DQ4, R1 DQ13, R2 DQ15, R3 VSS, R7 VDD, R8 DQ0, R9 DQ2

## MCD-01977_1
designator U?, comment IS42S32400F-6BL
SDRAM 128MBit 166MHZ 90BGA; Internal_Part_Number: MCD-01977; Part_Type: IC; Part_Preference: Recommended; Manufacturer: ISSI; Component_Country_Of_Origin: China, Taiwan; ShowFields: YES; ID: 4077; Value: IS42S32400F-6BL; Status: Released; Manufacturer_Part_Number: IS42S32400F-6BL; ComponentLink1URL: http://tunmcdsvn.tun.st.com/Component_Datasheet_Library/Trunk/IC/ISSI_IS42S32400F-6BL; Order_Code_Digikey: IS42S32400F-6BL-ND; Order_Code_Farnell: N/A; Order_Code_RS: N/A
footprint ICC_VFBGA90_8X13_P080
pins: A1 DQ26, A2 DQ24, A3 VSS, A7 VDD, A8 DQ23, A9 DQ21, B1 DQ28, B2 VDDQ, B3 VSSQ, B7 VDDQ, B8 VSSQ, B9 DQ19, C1 VSSQ, C2 DQ27, C3 DQ25, C7 DQ22, C8 DQ20, C9 VDDQ, D1 VSSQ, D2 DQ29, D3 DQ30, D7 DQ17, D8 DQ18, D9 VDDQ, E1 VDDQ, E2 DQ31, E3 NC, E7 NC, E8 DQ16, E9 VSSQ, F1 VSS, F2 DQM3, F3 A3, F7 A2, F8 DQM2, F9 VDD, G1 A4, G2 A5, G3 A6, G7 A10, G8 A0, G9 A1, H1 A7, H2 A8, H3 NC, H7 NC, H8 BA1, H9 A11, J1 CLK, J2 CKE, J3 A9, J7 BA0, J8 CS#, J9 RAS#, K1 DQM1, K2 NU, K3 NC, K7 CAS#, K8 WE#, K9 DQM0, L1 VDDQ, L2 DQ8, L3 VSS, L7 VDD, L8 DQ7, L9 VSSQ, M1 VSSQ, M2 DQ10, M3 DQ9, M7 DQ6, M8 DQ5, M9 VDDQ, N1 VSSQ, N2 DQ12, N3 DQ14, N7 DQ1, N8 DQ3, N9 VDDQ, P1 DQ11, P2 VDDQ, P3 VSSQ, P7 VDDQ, P8 VSSQ, P9 DQ4, R1 DQ13, R2 DQ15, R3 VSS, R7 VDD, R8 DQ0, R9 DQ2

## MCD-02422_1
designator U?, comment RK043FN78H-CT661C
LCD,  TFT, 4.3 inch, 480x272 pixels with LED Backlight and Capacitive touch panel, high luminance with 0.5mm pitch flat cable; Internal_Part_Number: MCD-02422; Part_Type: Display; Part_Preference: Recommended; Manufacturer: ROCKTECH; Manufacturer_Part_Number: RK043FN78HV-CT661C; Component_Country_Of_Origin: Unknown; ShowFields: YES; ID: 4528; Value: RK043FN78H-CT661C; Order_code_Digikey: N/A; Order_code_Farnell: N/A; Order_code_RS: N/A; Status: Released; ComponentLink1URL: http://tunmcdsvn.tun.st.com/Component_Documentation_Library/Trunk/Display/ROCKTECH_RK043FN78H-CT661C
footprint LCD_DRAWING_ROCKTEK_RK043FN78H-CT661C
pins: 1 VBL-, 2 VBL+, 3 GND, 4 VDD, 5 R0, 6 R1, 7 R2, 8 R3, 9 R4, 10 R5, 11 R6, 12 R7, 13 G0, 14 G1, 15 G2, 16 G3, 17 G4, 18 G5, 19 G6, 20 G7, 21 B0, 22 B1, 23 B2, 24 B3, 25 B4, 26 B5, 27 B6, 28 B7, 29 GND, 30 CLK, 31 DISP, 32 HSYNC, 33 VSYNC, 34 DE, 35 GND, 36 GND, 37 RESET, 38 INT, 39 SCL, 40 SDA

## MCD-02899
designator LD?, comment value RED  (hidden comment: LED_red)
LED, Red, VF : Min=1.75V , Max=2.35V, 25mA, 0603; Internal_Part_Number: MCD-02899; Part_Type: Display; Part_Preference: Recommended; Manufacturer: EVERLIGHT; Manufacturer_Part_Number: 19-213/R6C-AP1Q2B/5T; Full_Alternate_Internal_Part_Number: MCD-00049; Component_Country_Of_Origin: China; ShowFields: YES; ID: 5015; Status: Checked; Package: 0603; ComponentLink1URL: http://tunmcdsvn.tun.st.com/Component_Documentation_Library/Trunk/Display/EVERLIGHT_19-213-R6C-AP1Q2B-5T; Order_Code_Digikey: 1080-19-213/R6C-AP1Q2B/5TTR-ND; Order_Code_Farnell: N/A; Order_Code_RS: N/A
footprint LED_0603_RED
pins: 1, 2

## MCD-02899_1
designator LD?, comment value RED  (hidden comment: LED_red)
LED, Red, VF : Min=1.75V , Max=2.35V, 25mA, 0603; Internal_Part_Number: MCD-02899; Part_Type: Display; Part_Preference: Recommended; Manufacturer: EVERLIGHT; Manufacturer_Part_Number: 19-213/R6C-AP1Q2B/5T; Full_Alternate_Internal_Part_Number: MCD-00049; Component_Country_Of_Origin: China; ShowFields: YES; ID: 5015; Status: Checked; Package: 0603; ComponentLink1URL: http://tunmcdsvn.tun.st.com/Component_Documentation_Library/Trunk/Display/EVERLIGHT_19-213-R6C-AP1Q2B-5T; Order_Code_Digikey: 1080-19-213/R6C-AP1Q2B/5TTR-ND; Order_Code_Farnell: N/A; Order_Code_RS: N/A
footprint LED_0603_RED
pins: 1, 2

## MCD-02900
designator LD?, comment value GREEN  (hidden comment: LED_green)
LED, Green, 2V, 25mA, 0603, SMD; Internal_Part_Number: MCD-02900; Part_Type: Display; Part_Preference: Recommended; Manufacturer: EVERLIGHT; Manufacturer_Part_Number: 19-213SYGC/S530-E2/5T; Full_Alternate_Internal_Part_Number: MCD-00320; Partial_Alternate_Internal_Part_Number: MCD-00050; Component_Country_Of_Origin: China; ShowFields: YES; ID: 5016; Status: Checked; Package: 0603; ComponentLink1URL: http://tunmcdsvn.tun.st.com/Component_Documentation_Library/Trunk/Display/EVERLIGHT_19-213SYGC-S530-E2-5T; Order_Code_Digikey: 1080-19-213SYGC/S530-E2/5TTR-ND; Order_Code_Farnell: N/A; Order_Code_RS: N/A
footprint LED_0603_GREEN
pins: 1, 2

## MCD-02900_1
designator LD?, comment value GREEN  (hidden comment: LED_green)
LED, Green, 2V, 25mA, 0603, SMD; Internal_Part_Number: MCD-02900; Part_Type: Display; Part_Preference: Recommended; Manufacturer: EVERLIGHT; Manufacturer_Part_Number: 19-213SYGC/S530-E2/5T; Full_Alternate_Internal_Part_Number: MCD-00320; Partial_Alternate_Internal_Part_Number: MCD-00050; Component_Country_Of_Origin: China; ShowFields: YES; ID: 5016; Status: Checked; Package: 0603; ComponentLink1URL: http://tunmcdsvn.tun.st.com/Component_Documentation_Library/Trunk/Display/EVERLIGHT_19-213SYGC-S530-E2-5T; Order_Code_Digikey: 1080-19-213SYGC/S530-E2/5TTR-ND; Order_Code_Farnell: N/A; Order_Code_RS: N/A
footprint LED_0603_GREEN
pins: 1, 2

## MCZ1210AH900L2T
designator L?, comment CMC 100MA 2LN 90 OHM SMD
2 Line Common Mode Choke Surface Mount 90 Ohms @ 100 MHz 100mA DCR 1.75Ohm; Manufacturer Part Number: MCZ1210AH900L2TA0G; LCSC Manufacturer Part Number: MCZ1210AH900L2TD0G; Order Code: Digi: 445-MCZ1210AH900L2TA0GTR-ND; LCSC Part Number: C435268
footprint IND_MCZ1210AH_TDK
pins: 1, 2, 3 4, 4

## MCZ1210AH900L2T_1
designator L?, comment CMC 100MA 2LN 90 OHM SMD
2 Line Common Mode Choke Surface Mount 90 Ohms @ 100 MHz 100mA DCR 1.75Ohm; Manufacturer Part Number: MCZ1210AH900L2TA0G; LCSC Manufacturer Part Number: MCZ1210AH900L2TD0G; Order Code: Digi: 445-MCZ1210AH900L2TA0GTR-ND; LCSC Part Number: C435268
footprint IND_MCZ1210AH_TDK
pins: 1, 2, 3 4, 4

## MF-SM050-2
designator F?
PTC Resettable Fuse, 60 V, 40 A, -40 to 85 degC, 2-Pin SMD, RoHS, Tape and Reel; Manufacturer Part Number: MF-SM050-2; LCSC Manufacturer Part Number: MF-SM050-2; LCSC Part Number: C208496
footprint BOUR-MF-SM050-2_V (SMD, 2-Leads, Body 7.355x5.44mm)
pins: 1, 2

## MF-SM050-2_1
designator F?, comment MF-SM050-2
PTC Resettable Fuse, 60 V, 40 A, -40 to 85 degC, 2-Pin SMD, RoHS, Tape and Reel; Manufacturer Part Number: MF-SM050-2; LCSC Manufacturer Part Number: MF-SM050-2; LCSC Part Number: C208496
footprint BOUR-MF-SM050-2_V (SMD, 2-Leads, Body 7.355x5.44mm)
pins: 1, 2

## MIC6967
designator U?, comment MIC33153 VFDFN-14  (value not drawn)
IC REG BUCK ADJ 1.2A SYNC 14MLF; Manufacturer: Microchip; Manufacturer Part Number: MIC33153YHJ-TR; ComponentLink1Description: https://datasheet.ciiva.com/2028/mic33153-2028656.pdf?src-supplier=Digi-Key; ComponentLink2URL: C:\ALTIUM_WORK\00001_MCHP-CDB\Datasheets\mic33153.pdf; ComponentLink2Description: Local Datasheet; ComponentLink3URL: C:\ALTIUM_WORK\00001_MCHP-CDB\Library\LibraryRefs\MIC33153 VFDFN-14.SchLib; ComponentLink3Description: Open Symbol; ComponentLink4URL: C:\ALTIUM_WORK\00001_MCHP-CDB\Library\Footprints\VFDFN-14_3X3.5_MIC33153.PcbLib; ComponentLink4Description: Open Footprint; ComponentLink5Description: https://datasheet.ciiva.com/2028/mic33153-2028657.pdf?src-supplier=Digi-Key; ComponentLink6Description: https://datasheet.ciiva.com/26845/getdatasheetpartid-734992-26845015.pdf?src-supplier=Verical; ComponentLink7Description: https://datasheet.ciiva.com/2028/mic33153-2028655.pdf?src-supplier=Digi-Key; Supplier 1: Digi-Key; Supplier Part Number 1: 576-3904-1-ND; RoHS: Yes; Category: Voltage Regulators - Switching; Stock 1: 6735; Pricing 1: 1=1,76000, 25=1,47000, 100=1,33000 (USD); ComponentLink1URL: https://datasheet.ciiva.com/2028/mic33153-2028656.pdf?src-supplier=Digi-Key; ComponentLink5URL: https://datasheet.ciiva.com/2028/mic33153-2028657.pdf?src-supplier=Digi-Key; ComponentLink6URL: https://datasheet.ciiva.com/26845/getdatasheetpartid-734992-26845015.pdf?src-supplier=Verical; ComponentLink7URL: https://datasheet.ciiva.com/2028/mic33153-2028655.pdf?src-supplier=Digi-Key
footprint MLF-14_3x3.5mm (14 Lead MLF Package 3x3.5mm Height 0.95mm)
pins: 1 SS (power), 2 AGND (power), 3 VIN (power), 4 PGND (power), 5 OUT (out), 6 OUT (out), 7 OUT (out), 8 SW (out), 9 SW (out), 10 SW (out), 11 EN (in), 12 SNS (in), 13 PG (oc), 14 FB (in), 15 EP (power)
1 alternate drawing of the same symbol

## MICRO_USB_B_RA
designator J?
CONN MICRO B USB 2.0 RECEPTACLE 5POS SMD RA; Manufacturer: AMPHENOL; Manufacturer Part Name: 10118194-0001LF; Code: 3050016; Family: CONN; Supplier: Digikey; Supplier No: 609-4618-2-ND; Value: MICRO_USB_B_RA
footprint MICRO_USB_B
pins: 1 VCC, 2 D-, 3 D+, 4 NC, 5 GND, 6 GND
text: micro_USB-B

## MicroFit_2x2_VERT
designator J?, comment 0430450427  (value not drawn)
Connector Header Through Hole 4 position 0.118" (3.00mm); Manufacturer: Molex; Manufacturer Part Number: 0430450427
footprint MicroFit_2x2_VERT
pins: 1, 2, 3, 4

## MLF1608E8R2KTA00
designator L?, comment value 8.2uH  (hidden comment: FIXED IND 8.2UH 10MA 1.5 OHM SMD)
Inductor RF Chip Shielded Multi-Layer 8.2uH 10% 4MHz 35Q-Factor Ferrite 10mA 1.5Ohm DCR 0603 T/R; Manufacturer Part Number: MLF1608E8R2KTA00; Order Code: Digi: 445-1024-2-ND
footprint INDC1608X95N
pins: 1, 2

## MLF1608E8R2KTA00_1
designator L?, comment value 8.2uH  (hidden comment: FIXED IND 8.2UH 10MA 1.5 OHM SMD)
Inductor RF Chip Shielded Multi-Layer 8.2uH 10% 4MHz 35Q-Factor Ferrite 10mA 1.5Ohm DCR 0603 T/R; Manufacturer Part Number: MLF1608E8R2KTA00; Order Code: Digi: 445-1024-2-ND
footprint INDC1608X95N
pins: 1, 2

## MM8130-2600
designator J?
Coaxial Connector with Switch; Manufacturer: Murata; Part number IPS: 00000009955; Part number Norautron: 26030338; Part number NEMS: 100500400; Note: N.A.; Artikkelnr Noca: 55029011; Pad Count: 3; Component Status: Active; Part Number: MM8130-2600; Manufacturer Part Number: MM8130-2600; LatestRevisionDate: 2014-04-24; Published: 2014-04-24; Value: MM8130-2600; Footprint Doc: COAXIAL-SWF; ComponentLink1URL: N.A.; ComponentLink1Description: Datasheet; ComponentLink2URL: N.A.; ComponentLink2Description: Supplier link; HelpURL: http://www.murata.com/products/catalog/pdf/o33e.pdf; Supplier 1: Digi-Key; Supplier Part Number 1: 490-4981-1-ND; Supplier 2: Mouser; Supplier Part Number 2: 81-MM8130-2600RA2; Component Class: Connectors; PartId: 100500400; Author: rsk; System: Connector
footprint COAXIAL-SWF
pins: 1 IN, 2 Shield, 3 OUT

## MMBTA42-HT
designator TR?
TRANS MMBTA42-HT BIPOLAR TRANSISTOR NPN SOT23; Manufacturer: HOTTECH; Code: 3040094; Family: TRANS; Manufacturer Part Name: MMBTA42-HT; Package Reference: SOT23-3; Supplier: Ozdisan; Supplier No: MMBTA42-HT; Value: MMBTA42-HT
footprint SOT23-3 (SOT23, 3-Leads, Body 2.9x1.3mm, Pitch 0.95mm, Lead Span 2.5mm, IPC Medium Density)
pins: 1 B, 2 E, 3 C

## MOCD223R2M
designator IC?
IC OPTOISO DARLINGTON OUTPUT MOCD223R2M 2CH VCE 30V SOIC8; Manufacturer: FAIRCHILD; Code: 3000115; Family: IC; Manufacturer Part Name: MOCD223R2M; Supplier: Mouser; Supplier No: 512-MOCD223R2M; Package Reference: SOIC8; Value: MOCD223R2M
footprint SOIC127P600-8N (SOIC, 8-Leads, Body 4.9x3.9mm, Pitch 1.27mm, IPC Medium Density)
part A pins: 1, 2, 7, 8
part B pins: 3, 4, 5, 6

## MountingHole_3.2_M3
designator H?, comment MountingHole_NPTH  (no BOM)
Mounting hole, 3.2mm, M3, no annular; Part Number: MountingHole_3.2_M3; Manufacturer: N.A.; Part number NEMS: 101200008; Value: MountingHole_3.2_M3; Pad Count: 0; Component Status: Active; Rule: UNIONINDEX=0|RULEKIND=Clearance|NETSCOPE=DifferentNets|LAYERKIND=SameLayer|NAME=Schematic Clearance Constraint|GAP=10mil|GENERICCLEARANCE=10mil|IGNOREPADTOPADCLEARANCEINFOOTPRINT=TRUE|OBJECTCLEARANCES=ClearanceObj_Arc-ClearanceObj_Hole:0;ClearanceObj_Track-ClearanceObj_Hole:0;ClearanceObj_SMDPad-ClearanceObj_Hole:0;ClearanceObj_THPad-ClearanceObj_Hole:0;ClearanceObj_Via-ClearanceObj_Hole:0;ClearanceObj_Fill-ClearanceObj_Hole:0;ClearanceObj_Poly-ClearanceObj_Hole:0;ClearanceObj_Region-ClearanceObj_Hole:0;ClearanceObj_Text-ClearanceObj_Hole:0|UNIT=Metric; Rule: UNIONINDEX=0|RULEKIND=RoutingVias|NETSCOPE=AnyNet|LAYERKIND=SameLayer|NAME=Schematic Routing Via Style|HOLEWIDTH=0mil|WIDTH=0mil|VIASTYLE=Through Hole|MINHOLEWIDTH=0mil|MINWIDTH=0mil|MAXHOLEWIDTH=78.7402mil|MAXWIDTH=78.7402mil|UNIT=Metric; Manufacturer Part Number: N.A.; Footprint Doc: MountingHole_3.2_M3; LatestRevisionDate: 2022-12-16; Published: 2022-12-16; Note: N.A.; Artikkelnr Noca: N.A.; Part number IPS: N.A.; ComponentLink1URL: N.A.; ComponentLink1Description: Datasheet; ComponentLink2URL: N.A.; ComponentLink2Description: Supplier link; HelpURL: N.A.; Supplier 1: N.A.; Supplier Part Number 1: N.A.; Supplier 2: N.A.; Supplier Part Number 2: N.A.; Author: kod1; Component Class: Mechanicals; PartId: 101200008; Part number Norautron: N.A.
footprint MountingHole_3.2_M3

## MPU-6050
designator U?
MPU-6050 series Accelerometer, Gyroscope, 3 Axis Sensor Evaluation Board; MF: TDK InvenSense; SnapEDA_Link: https://www.snapeda.com/parts/MPU-6050/TDK+InvenSense/view-part/?ref=snap; Package: QFN-24 InvenSense; Value: *; MP: MPU-6050; Check_prices: https://www.snapeda.com/parts/MPU-6050/TDK+InvenSense/view-part/?ref=eda
footprint QFN50P400X400X95-24N
pins: 1 CLKIN (in), 2 NC, 3 NC, 4 NC, 5 NC, 6 AUX_DA (io), 7 AUX_CL (out), 8 VLOGIC (power), 9 AD0 (in), 10 REGOUT, 11 FSYNC (in), 12 INT (out), 13 VDD (power), 14 NC, 15 NC, 16 NC, 17 NC, 18 GND (power), 19 RESV, 20 CPOUT, 21 RESV, 22 RESV, 23 SCL (in), 24 SDA (io)

## MT25QL512ABB8ESF-0SIT_TR
designator IC?
Integrated Circuit; Manufacturer_Name: Micron; Manufacturer_Part_Number: MT25QL512ABB8ESF-0SIT TR; Datasheet Link: https://media-www.micron.com/-/media/client/global/documents/products/data-sheet/nor-flash/serial-nor/mt25q/die-rev-b/mt25q_qlkt_l_512_abb_0.pdf; Height: 2.65mm; Mouser Part Number: 340-278183-REEL; Mouser Price/Stock: https://www.mouser.co.uk/ProductDetail/Micron/MT25QL512ABB8ESF-0SIT-TR?qs=j%252B1pi9TdxUbYAgyjEB9MUA%3D%3D; Arrow Part Number: MT25QL512ABB8ESF-0SIT TR; Arrow Price/Stock: null?region=nac
footprint SOIC127P1032X265-16N
pins: 1 DQ3/HOLD#, 2 VCC, 3 RESET#, 4 DNU_1, 5 DNU_2, 6 DNU_3, 7 S#, 8 DQ1, 9 W#/DQ2, 10 VSS, 11 DNU_4, 12 DNU_5, 13 DNU_6, 14 DNU_7, 15 DQ0, 16 C

## MTG3MM
designator MTG?, comment Mounting Hole, 3MM  (no BOM)
footprint MTG-PTH-3MM
pins: 0

## MTG3MM_1
designator MTG?, comment Mounting Hole, 3MM  (no BOM)
footprint MTG-PTH-3MM
pins: 0

## NLAS5223BMNR2G
designator U?
Dual-SPDT Analog Switch; Manufacturer: ON Semiconductor; Part number NEMS: 101900819; Note: N.A.; Pad Count: 10; Component Status: Active; Part Number: NLAS5223BMNR2G; Manufacturer Part Number: NLAS5223BMNR2G; ComponentLink1URL: https://www.onsemi.com/pdf/datasheet/nlas5223b-d.pdf; ComponentLink1Description: Datasheet; ComponentLink2URL: https://www.digikey.com/en/products/detail/onsemi/NLAS5223BLMNR2G/1484453; ComponentLink2Description: Supplier link; HelpURL: https://www.onsemi.com/products/interfaces/analog-switches/nlas5223b; Footprint Doc: UFQFN-10; LatestRevisionDate: 2024-05-08; Published: 2024-05-08; Value: NLAS5223BMNR2G; Supplier 1: Digi-Key; Supplier Part Number 1: NLAS5223BMNR2GOSCT-ND; Supplier 2: N.A.; Supplier Part Number 2: N.A.; Artikkelnr Noca: N.A.; Part number IPS: N.A.; Author: getr; Component Class: Misc_ICs; Part number Norautron: N.A.; PartId: 101900819
footprint UFQFN40P140X180X55-10N
pins: 1 VCC (power), 2 NO1 (io), 3 COM1 (io), 4 IN1 (in), 5 NC1 (io), 6 GND (power), 7 NC2 (io), 8 IN2 (in), 9 COM2 (io), 10 NO2 (io)

## NN02-101_Corner
designator A?, comment NN02-101
Miniature and high-efficiency Bluetooth/Wi-Fi antenna; Part Number: NN02-101_Corner; Manufacturer: Ignion; Part number NEMS: 100700077; Component Status: Active; Pad Count: 2; Note: N.A.; PartId: 100700079; Component Class: Antennas; Author: hany; Manufacturer Part Number: NN02-101; ComponentLink1URL: https://ignion.io/files/DS_NN02-101.pdf; ComponentLink1Description: Datasheet; ComponentLink2URL: https://www.digikey.com/en/products/detail/ignion/NN02-101/14544286; ComponentLink2Description: Supplier link; HelpURL: https://ignion.io/product/nano-mxtend/; LatestRevisionDate: 2022-12-21; Published: 2022-12-21; Footprint Doc: NN02-101; Value: NN02-101; Supplier 1: Digi-Key; Supplier Part Number 1: 2115-NN02-101-ND; Supplier 2: N.A.; Supplier Part Number 2: N.A.; Artikkelnr Noca: N.A.; Part number IPS: N.A.; Part number Norautron: N.A.
footprint NN02-101_Corner
pins: 1

## NN03-310-R
designator A?, comment NN03-310
Mobile IoT LTE Multi-Band Antenna; Part Number: NN03-310-R; Manufacturer: Ignion; Part number IPS: 80000001819; Part number NEMS: 100700053; Pad Count: 5; Note: N.A.; Component Status: Active; PartId: 100700053; Component Class: Antennas; Author: rsk; Manufacturer Part Number: NN03-310; ComponentLink1URL: https://ignion.io/files/DS_NN03-310.pdf; ComponentLink1Description: Datasheet; ComponentLink2URL: https://ignion.io/product/trio-mxtend/; ComponentLink2Description: Supplier link; HelpURL: https://ignion.io/files/UM_NN03-310.pdf; Footprint Doc: NN03-310; LatestRevisionDate: 2021-12-15; Published: 2018-07-09; Value: NN03-310; Supplier 1: N.A.; Supplier Part Number 1: N.A.; Supplier 2: N.A.; Supplier Part Number 2: N.A.; Artikkelnr Noca: N.A.; Part number Norautron: N.A.
footprint NN03-310_RF (Footprint not found)
footprint NN03-310_RF_ALT1
pins: 1 Feed, 2 Tuning, 3 Tuning, 4 Tuning

## NN03-320
designator A?
Dual-Band GNSS and Wi-Fi/BluetoothAntenna; Manufacturer: Ignion; Part number NEMS: 100700066; Pad Count: 4; Note: N.A.; Component Status: Active; Part Number: NN03-320; Component Class: Antennas; Author: rubr; Manufacturer Part Number: NN03-320; ComponentLink1URL: https://ignion.io/files/DS_NN03-320.pdf; ComponentLink1Description: Datasheet; ComponentLink2URL: https://ignion.io/product/duo-mxtend/; ComponentLink2Description: Supplier link; HelpURL: https://ignion.io/files/UM_NN03-320.pdf; Footprint Doc: NN03-320; LatestRevisionDate: 2021-12-10; Published: 2023-01-31; Value: NN03-320; Supplier 1: Digi-Key; Supplier Part Number 1: 2115-NN03-320CT-ND; Supplier 2: Mouser; Supplier Part Number 2: 128-NN03-320; Artikkelnr Noca: N.A.; Part number IPS: N.A.; Part number Norautron: N.A.; PartId: 100700066
footprint NN03-320
pins: 1 NC hidden, 2 GND hidden, 3 Feed2 hidden, 4 Feed1
3 alternate drawings of the same symbol

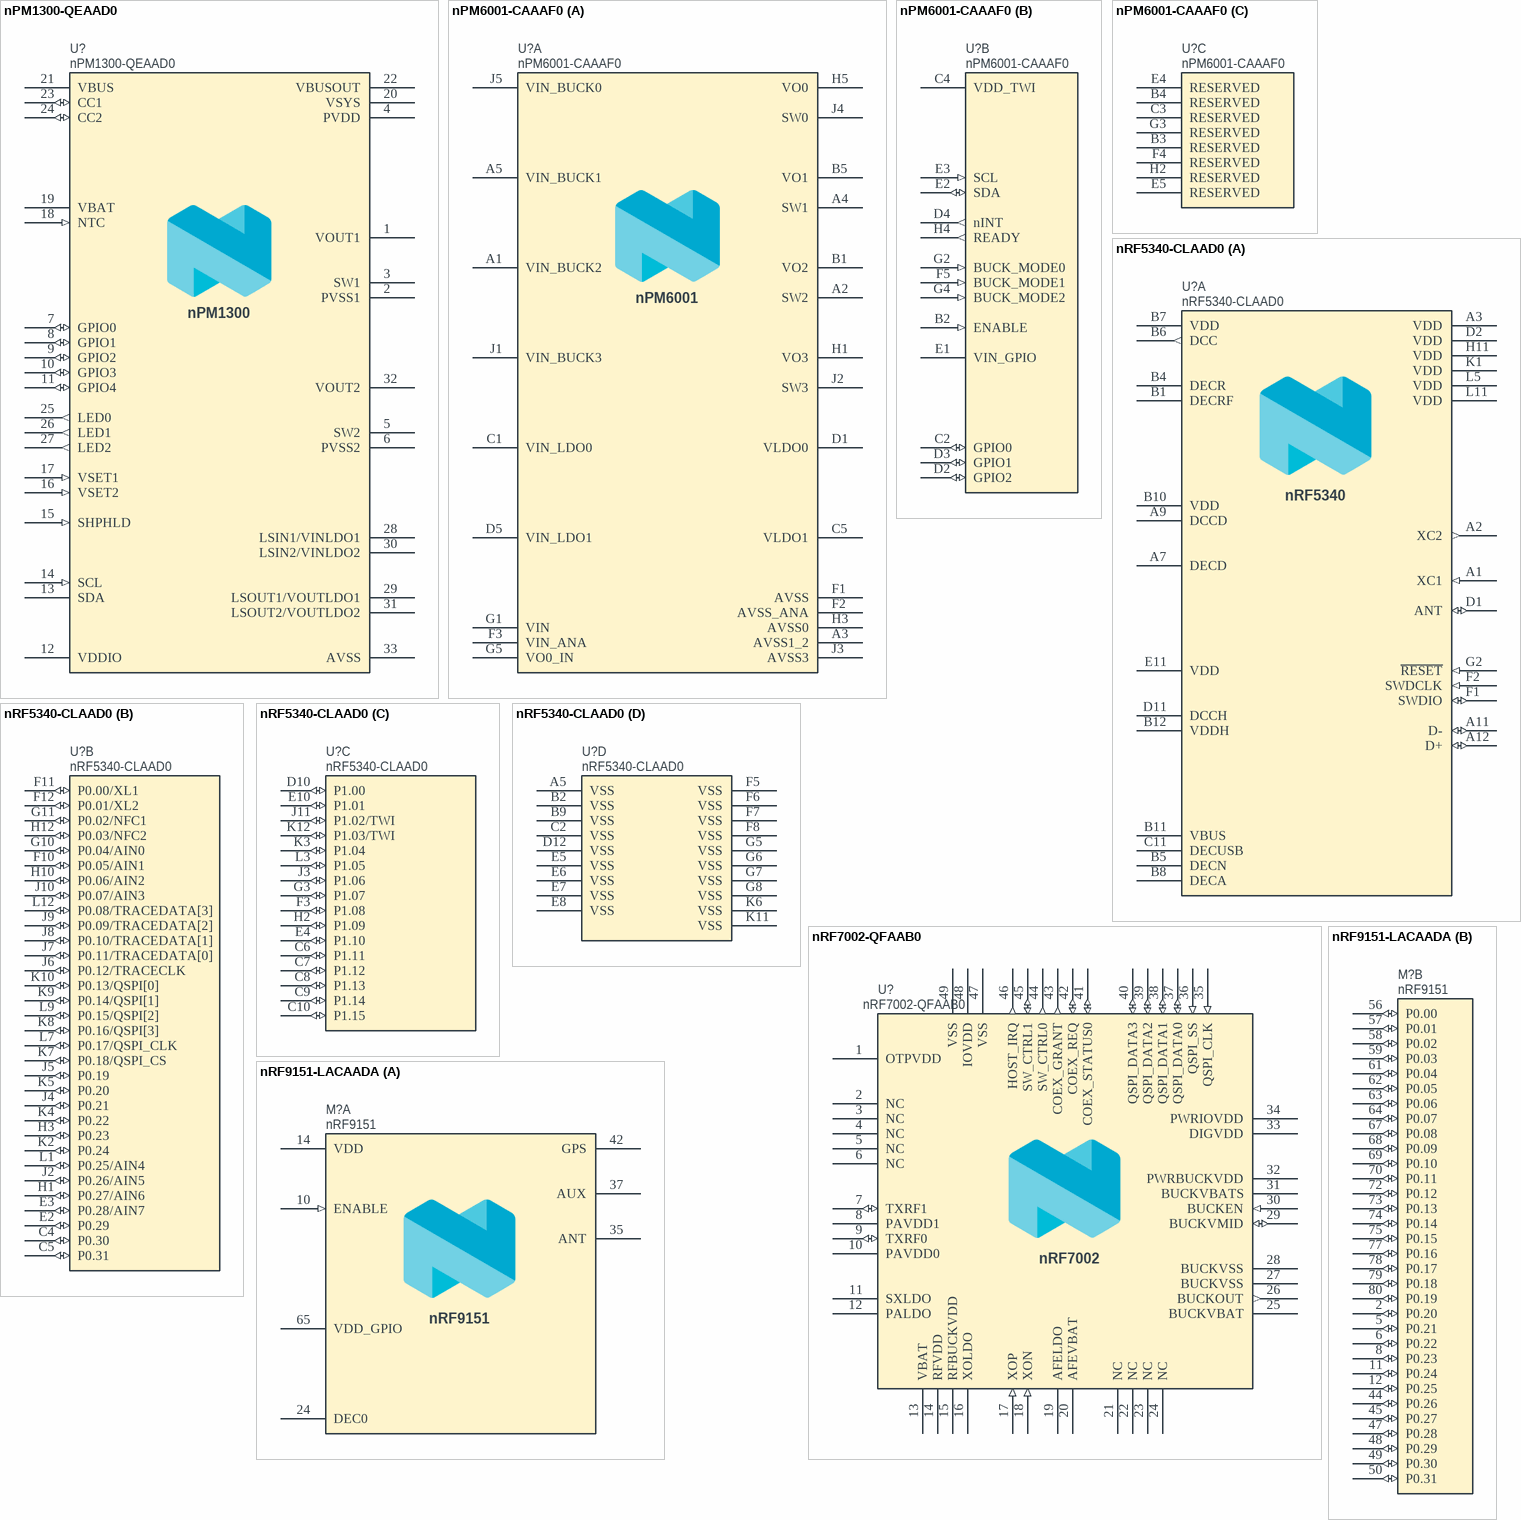
[diagram p21: symbols nPM1300-QEAAD0 to nRF9151-LACAADA]

## nPM1300-QEAAD0
designator U?
Li-Ion/Li-Polymer USB-C battery charger with high efficiency buck regulators, LDOs or load switches, LED drivers, TWI and VBUSOUT; Manufacturer: Nordic Semiconductor; Part number NEMS: 102000333; Component Status: Active; Pad Count: 33; Note: Production version; Artikkelnr Noca: N.A.; Part Number: nPM1300-QEAAD0; Component Class: Nordic_Devices; Author: eisk; Manufacturer Part Number: nPM1300-QEAAD0; ComponentLink1URL: N.A.; ComponentLink1Description: Datasheet; ComponentLink2URL: N.A.; ComponentLink2Description: Supplier link; HelpURL: N.A.; LatestRevisionDate: 2024-05-21; Published: 2024-05-21; Footprint Doc: QFN-32; Value: nPM1300-QEAAD0; Supplier 1: Nordic Semiconductor; Supplier Part Number 1: nPM1300-QEAAD0; Supplier 2: N.A.; Supplier Part Number 2: N.A.; Part number IPS: N.A.; Part number Norautron: N.A.; PartId: 102000333
footprint Nordic_QFN50P500X500X90-33N
pins: 1 VOUT1 (power), 2 PVSS1 (power), 3 SW1 (power), 4 PVDD (power), 5 SW2 (power), 6 PVSS2 (power), 7 GPIO0 (io), 8 GPIO1 (io), 9 GPIO2 (io), 10 GPIO3 (io), 11 GPIO4 (io), 12 VDDIO (power), 13 SDA (oc), 14 SCL (in), 15 SHPHLD (in), 16 VSET2 (in), 17 VSET1 (in), 18 NTC (in), 19 VBAT, 20 VSYS (power), 21 VBUS (power), 22 VBUSOUT (power), 23 CC1 (io), 24 CC2 (io), 25 LED0 (out), 26 LED1 (out), 27 LED2 (out), 28 LSIN1/VINLDO1 (power), 29 LSOUT1/VOUTLDO1 (power), 30 LSIN2/VINLDO2 (power), 31 LSOUT2/VOUTLDO2 (power), 32 VOUT2 (power), 33 AVSS (power)
text: nPM1300

## nPM6001-CAAAF0
designator U?
Low-power and high efficiency PMIC; Manufacturer: Nordic Semiconductor; Part number NEMS: 102000358; Component Status: Active; Pad Count: 45; Note: N.A.; Part Number: nPM6001-CAAAF0; Component Class: Nordic_Devices; Author: getr; Manufacturer Part Number: nPM6001-CAAAF0; ComponentLink1URL: N.A.; ComponentLink1Description: Datasheet; ComponentLink2URL: N.A.; ComponentLink2Description: Supplier link; HelpURL: N.A.; LatestRevisionDate: 2024-08-09; Published: 2024-08-09; Footprint Doc: WLCSP-45; Value: nPM6001-CAAAF0; Supplier 1: Nordic Semiconductor; Supplier Part Number 1: nPM6001-CAAAF0; Supplier 2: N.A.; Supplier Part Number 2: N.A.; Artikkelnr Noca: N.A.; Part number IPS: N.A.; Part number Norautron: N.A.; PartId: 102000358
footprint BGA45C40P5X9_217X364X49
part A pins: A1 VIN_BUCK2 (power), A2 SW2 (power), A3 AVSS1_2 (power), A4 SW1 (power), A5 VIN_BUCK1 (power), B1 VO2 (power), B5 VO1 (power), C1 VIN_LDO0 (power), C5 VLDO1 (power), D1 VLDO0 (power), D5 VIN_LDO1 (power), F1 AVSS (power), F2 AVSS_ANA (power), F3 VIN_ANA (power), G1 VIN (power), G5 VO0_IN (power), H1 VO3 (power), H3 AVSS0 (power), H5 VO0 (power), J1 VIN_BUCK3 (power), J2 SW3 (power), J3 AVSS3 (power), J4 SW0 (power), J5 VIN_BUCK0 (power)
part B pins: B2 ENABLE (in), C2 GPIO0 (io), C4 VDD_TWI (power), D2 GPIO2 (io), D3 GPIO1 (io), D4 nINT (out), E1 VIN_GPIO (power), E2 SDA (io), E3 SCL (in), F5 BUCK_MODE1 (in), G2 BUCK_MODE0 (in), G4 BUCK_MODE2 (in), H4 READY (out)
part C pins: B3 RESERVED, B4 RESERVED, C3 RESERVED, E4 RESERVED, E5 RESERVED, F4 RESERVED, G3 RESERVED, H2 RESERVED
part A text: nPM6001